# Altium footprint library SS3P3-M3-84A.PcbLib: 1 footprints
Each footprint in its own frame and in the unit in brackets; x right, y up, seen from the top. Pads: shape width x height; smd on the part's side, far side on the other; paste and mask are expansions set on the pad; w line width, h text height; cw(c..) or ccw(c..) is an arc to the next point about the centre after c.
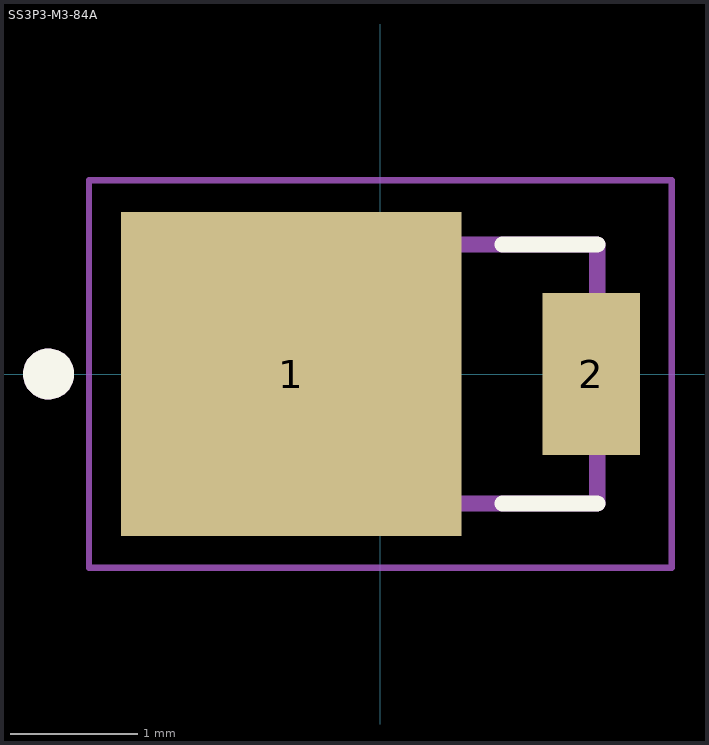
[diagram p0: the footprint, top view; thin cyan lines are the x and y axes]

## SS3P3-M3-84A [mil]
pads (2):
  rect 105.12x100 smd paste-78.74: 1(-27.5,0)
  rect 30x50 smd: 2(65.06,0)
Top Overlay:
  circle w7.87: c-102.36,0 r3.94
  lines w5: 37.66,-39.96 66.93,-39.96 ; 37.66,39.96 66.93,39.96
Top Paste:
  region: 21.65,-39.96 -55.12,-39.96 -55.12,-23.62 -80.12,-23.62 -80.12,-17.72 -80.12,23.62 -55.12,23.62 -55.12,39.96 21.65,39.96
Top 3D Body:
  circle w7.87: c-102.36,0 r3.94
  lines w5: -66.93,-39.96 -66.93,39.96 66.93,39.96 66.93,-39.96 -66.93,-39.96
Top Courtyard:
  lines w1.97: -89.9,-59.84 89.9,-59.84 89.9,59.84 -89.9,59.84 -89.9,-59.84
3D body "SS3P3-M3_84A.step": height 45, standoff 0, extent -72.42,-39.45 78.42,39.45